# Altium schematic symbol library ARM_Libary_USB_to_RS232.SchLib: 18 symbols
Pins are listed as number, name and electrical type; pins without a type are passive.

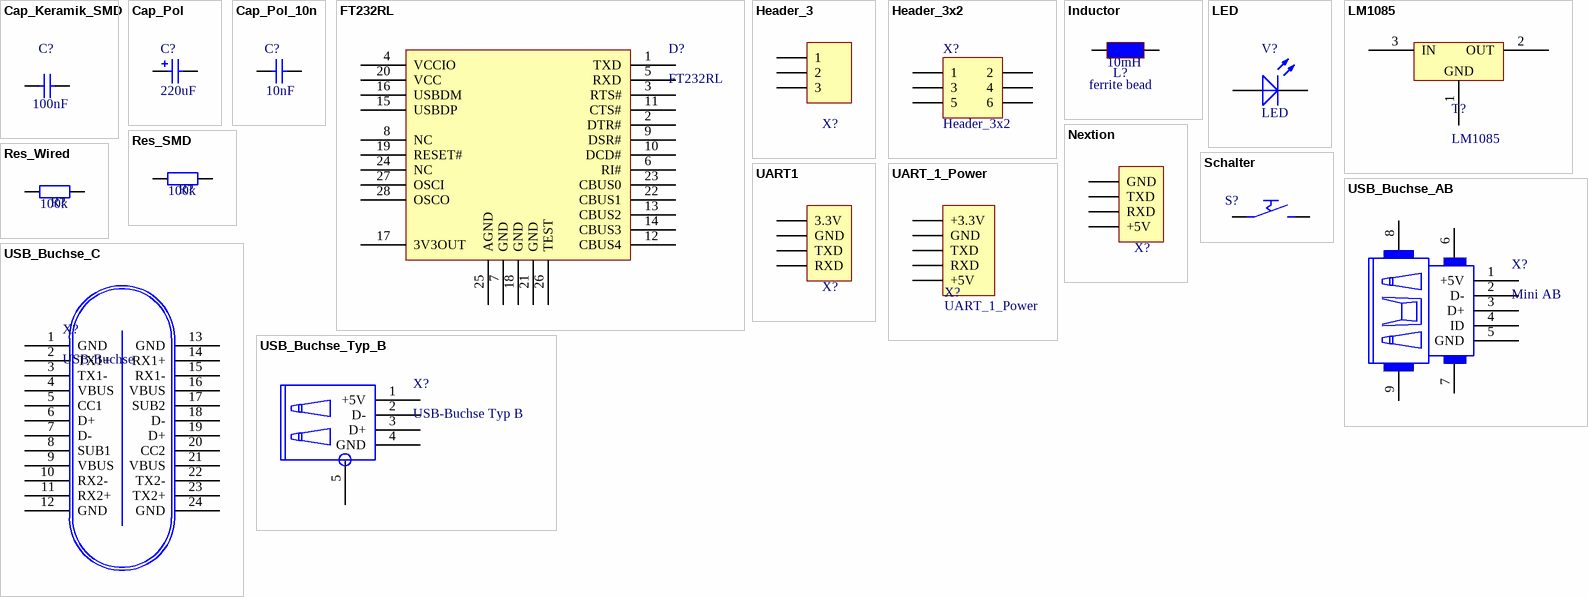
[diagram p0: symbols Cap_Keramik_SMD to USB_Buchse_Typ_B]

## Cap_Keramik_SMD
designator C?  value 100nF  (hidden comment: Cap_Keramik_SMD)
Capacitor_SMD; Published: 8-Jun-2000; LatestRevisionDate: 17-Jul-2002; LatestRevisionNote: Re-released for DXP Platform.; PackageReference: RAD-0.3; Publisher: Altium Limited
simulation model CAP (Capacitor)
signal-integrity model Cap
footprint 0805x1.5 (0805 Footprint for non polarized Capacitors)
footprint 0805_CAP
pins: 1, 2

## Cap_Pol
designator C?  value 220uF  (hidden comment: Cap_Pol)
Polarized Capacitor; Published: 8-Jun-2000; LatestRevisionDate: 17-Jul-2002; LatestRevisionNote: Re-released for DXP Platform.; PackageReference: RB7.6-15; Publisher: Altium Limited
simulation model CAP (Capacitor)
signal-integrity model Cap Pol
footprint CAPPOL (Cap Pol)
footprint Kondensator_SMD_Metal
footprint 1411_Cap_Pol
pins: 1, 2
1 alternate drawing of the same symbol

## Cap_Pol_10n
designator C?  value 10nF  (hidden comment: Cap_Pol_10n)
Polarized Capacitor; Published: 8-Jun-2000; LatestRevisionDate: 17-Jul-2002; LatestRevisionNote: Re-released for DXP Platform.; PackageReference: RB7.6-15; Publisher: Altium Limited
simulation model CAP (Capacitor)
signal-integrity model Cap Pol
footprint 10nF (capacitor)
footprint 0805x1.5 (0805 Footprint for non polarized Capacitors)
pins: 1, 2
1 alternate drawing of the same symbol

## FT232RL
designator D?
footprint SSOP_28 (FTDI - FT232RL)
pins: 1 TXD, 2 DTR#, 3 RTS#, 4 VCCIO, 5 RXD, 6 RI#, 7 GND, 8 NC, 9 DSR#, 10 DCD#, 11 CTS#, 12 CBUS4, 13 CBUS2, 14 CBUS3, 15 USBDP, 16 USBDM, 17 3V3OUT, 18 GND, 19 RESET#, 20 VCC, 21 GND, 22 CBUS1, 23 CBUS0, 24 NC, 25 AGND, 26 TEST, 27 OSCI, 28 OSCO

## Header_3
designator X?  (value not drawn)
Header, 3-Pin; LatestRevisionDate: 17-Jul-2002; LatestRevisionNote: Re-released for DXP Platform.; Publisher: Altium Limited
signal-integrity model Connector
footprint HDR1X3 (Connector; Header; 3 Position)
pins: 1, 2, 3

## Header_3x2
designator X?
Header, 3x2-Pin; LatestRevisionDate: 17-Jul-2002; LatestRevisionNote: Re-released for DXP Platform.; Publisher: Altium Limited
signal-integrity model Connector
footprint HDR2X3 (Connector; Header; 3x2 Position)
pins: 1, 2, 3, 4, 5, 6

## Inductor
designator L?, comment ferrite bead  value 10mH
Inductor; Code_IEC: 1005; Published: 8-Jun-2000; LatestRevisionDate: 17-Jul-2002; LatestRevisionNote: Re-released for DXP Platform.; PackageReference: 0402-A; Publisher: Altium Limited; Code_JEITA: 0402
simulation model INDUCTOR (Inductor)
signal-integrity model Inductor
footprint Ferritperle
footprint 0805_ferrit
pins: 1, 2

## LED
designator V?
Typical RED, GREEN, YELLOW, AMBER GaAs LED; Published: 8-Jun-2000; LatestRevisionDate: 17-Jul-2002; LatestRevisionNote: Re-released for DXP Platform.; PackageDocument: Feb-2002; PackageReference: 3.2X1.6X1.1; Publisher: Altium Limited
footprint LED_5mm
footprint 0805_LED
pins: 1 A, 2 K

## LM1085
designator T?
3.3V Fixspannungsregler
footprint LM1085 (+3,3V Fixspannungsregler)
pins: 1 GND, 2 OUT, 3 IN

## Nextion
designator X?  (value not drawn)
Header, 4-Pin; LatestRevisionDate: 17-Jul-2002; LatestRevisionNote: Re-released for DXP Platform.; Publisher: Altium Limited
signal-integrity model Connector
footprint NEXTION (Connector; Header; 4 Position)
pins: 1 GND, 2 TXD, 3 RXD, 4 +5V

## Res_SMD
designator R?  value 100k  (hidden comment: Res_SMD)
Resistor; Published: 8-Jun-2000; LatestRevisionDate: 17-Jul-2002; LatestRevisionNote: Re-released for DXP Platform.; PackageReference: AXIAL-0.4; Publisher: Altium Limited
simulation model RESISTOR (Resistor)
signal-integrity model Res
footprint 0805_Res
pins: 1, 2

## Res_Wired
designator R?  value 100k  (hidden comment: Res_Wired)
Resistor; Published: 8-Jun-2000; LatestRevisionDate: 17-Jul-2002; LatestRevisionNote: Re-released for DXP Platform.; PackageReference: AXIAL-0.4; Publisher: Altium Limited
simulation model RESISTOR (Resistor)
signal-integrity model Res
footprint Resistor (bedrahtet)
pins: 1, 2

## Schalter
designator S?  (value not drawn)
Taster, Schließer
footprint Switch
footprint Switch_wired (Connector; Header; 3 Position)
pins: 1, 2

## UART1
designator X?  (value not drawn)
Header, 4-Pin; LatestRevisionDate: 17-Jul-2002; LatestRevisionNote: Re-released for DXP Platform.; Publisher: Altium Limited
signal-integrity model Connector
footprint HDR1X4 (Connector; Header; 4 Position)
pins: 1 3.3V, 2 GND, 3 TXD, 4 RXD

## UART_1_Power
designator X?
Header, 5-Pin; LatestRevisionDate: 17-Jul-2002; LatestRevisionNote: Re-released for DXP Platform.; Publisher: Altium Limited
footprint HDR1X4_UART_Power
signal-integrity model Connector
pins: 1 +3.3V, 2 GND, 3 TXD, 4 RXD, 5 +5V

## USB_Buchse_AB
designator X?, comment Mini AB
USB-Buchse (AB)
footprint Mini_USB
pins: 1 +5V, 2 D-, 3 D+, 4 ID, 5 GND, 6, 7, 8, 9

## USB_Buchse_C
designator X?, comment USB-Buchse
USB Buchse (C)
footprint USB_C (SON, 24-Leads, Body 9,93x8,22mm, Pitch 0,50mm, IPC Medium Density)
pins: 1 GND, 2 TX1+, 3 TX1-, 4 VBUS, 5 CC1, 6 D+, 7 D-, 8 SUB1, 9 VBUS, 10 RX2-, 11 RX2+, 12 GND, 13 GND, 14 RX1+, 15 RX1-, 16 VBUS, 17 SUB2, 18 D-, 19 D+, 20 CC2, 21 VBUS, 22 TX2-, 23 TX2+, 24 GND

## USB_Buchse_Typ_B
designator X?, comment USB-Buchse Typ B
USB Buchse (A)
footprint USB_Buchse_Typ_B (USB Buchse Typ B)
pins: 1 +5V, 2 D-, 3 D+, 4 GND, 5 GND